# Altium schematic symbol library PMR100HZPFU5L00.SchLib: 1 symbol
Pins are listed as number, name and electrical type; pins without a type are passive.

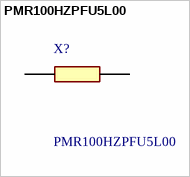
[diagram p0: symbol PMR100HZPFU5L00]

## PMR100HZPFU5L00
designator X?
6432(2512)Size, Ultra-low Ohmic Chip Resistors For Current Detection (AEC-Q200 Qualified); Manufacturer_Name: ROHM Semiconductor; Geometry.Height: 0.67mm; Mouser Part Number: 755-PMR100HZPFU5L00; Mouser Price/Stock: https://www.mouser.co.uk/ProductDetail/ROHM-Semiconductor/PMR100HZPFU5L00?qs=oBjDkOCjPF0%2FXe4M%2FfVe6g%3D%3D; Manufacturer_Part_Number: PMR100HZPFU5L00; Datasheet Link: https://fscdn.rohm.com/en/products/databook/datasheet/passive/resistor/chip_resistor/pmr_series-e.pdf
footprint RESC6432X67N
pins: 1, 2